# EAGLE library part ATMEGA328P (library arduino)
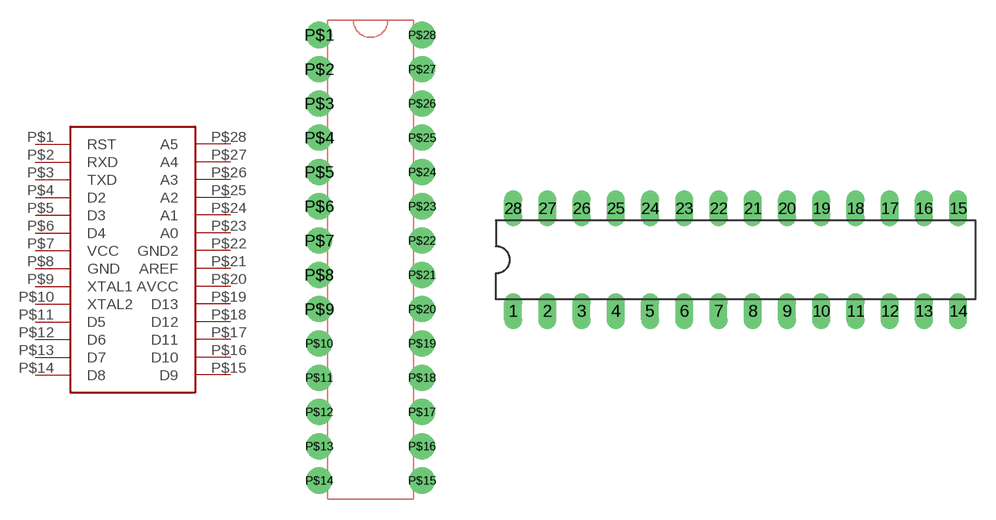
[diagram p0: symbol with the pads of 28PDIP; footprints 28PDIP, DIL28-3]

Designator prefix -

## ATMEGA328P  [28PDIP]
P$1  RST
P$2  RXD
P$3  TXD
P$4  D2
P$5  D3
P$6  D4
P$7  VCC
P$8  GND
P$9  XTAL1
P$10  XTAL2
P$11  D5
P$12  D6
P$13  D7
P$14  D8
P$15  D9
P$16  D10
P$17  D11
P$18  D12
P$19  D13
P$20  AVCC
P$21  AREF
P$22  GND2
P$23  A0
P$24  A1
P$25  A2
P$26  A3
P$27  A4
P$28  A5

## ATMEGA328P2  [DIL28-3]
1  RST
2  RXD
3  TXD
4  D2
5  D3
6  D4
7  VCC
8  GND
9  XTAL1
10  XTAL2
11  D5
12  D6
13  D7
14  D8
15  D9
16  D10
17  D11
18  D12
19  D13
20  AVCC
21  AREF
22  GND2
23  A0
24  A1
25  A2
26  A3
27  A4
28  A5

## Footprint 28PDIP (pad centres in mm)
drill 0.8 pad 1.93: P$1 0,0; P$2 0,-2.54; P$3 0,-5.08; P$4 0,-7.62; P$5 0,-10.16; P$6 0,-12.7; P$7 0,-15.24; P$8 0,-17.78; P$9 0,-20.32; P$10 0,-22.86; P$11 0,-25.4; P$12 0,-27.94; P$13 0,-30.48; P$14 0,-33.02; P$15 7.62,-33.02; P$16 7.62,-30.48; P$17 7.62,-27.94; P$18 7.62,-25.4; P$19 7.62,-22.86; P$20 7.62,-20.32; P$21 7.62,-17.78; P$22 7.62,-15.24; P$23 7.62,-12.7; P$24 7.62,-10.16; P$25 7.62,-7.62; P$26 7.62,-5.08; P$27 7.62,-2.54; P$28 7.62,0

## Footprint DIL28-3 (pad centres in mm)
Dual In Line Package Small
drill 0.813 long: 1 -16.51,-3.81; 2 -13.97,-3.81; 3 -11.43,-3.81; 4 -8.89,-3.81; 5 -6.35,-3.81; 6 -3.81,-3.81; 7 -1.27,-3.81; 8 1.27,-3.81; 9 3.81,-3.81; 10 6.35,-3.81; 11 8.89,-3.81; 12 11.43,-3.81; 13 13.97,-3.81; 14 16.51,-3.81; 15 16.51,3.81; 16 13.97,3.81; 17 11.43,3.81; 18 8.89,3.81; 19 6.35,3.81; 20 3.81,3.81; 21 1.27,3.81; 22 -1.27,3.81; 23 -3.81,3.81; 24 -6.35,3.81; 25 -8.89,3.81; 26 -11.43,3.81; 27 -13.97,3.81; 28 -16.51,3.81